# Altium footprint library SON-10.PcbLib: 1 footprints
Each footprint in its own frame and in the unit in brackets; x right, y up, seen from the top. Pads: shape width x height; smd on the part's side, far side on the other; paste and mask are expansions set on the pad; w line width, h text height; cw(c..) or ccw(c..) is an arc to the next point about the centre after c.
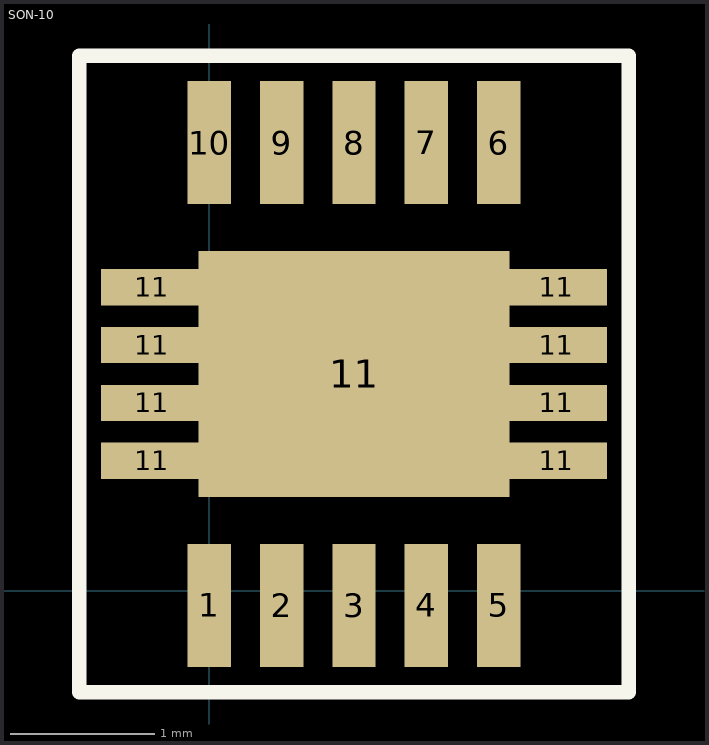
[diagram p0: the footprint, top view; thin cyan lines are the x and y axes]

## SON-10 [mm]
pads (19):
  rect 0.3x0.85 smd mask+0.05: 1(0,-0.1) 2(0.5,-0.1) 3(1,-0.1) 4(1.5,-0.1) 5(2,-0.1) 6(2,3.1) 7(1.5,3.1) 8(1,3.1) 9(0.5,3.1) 10(0,3.1)
  rect 0.7x0.25 smd mask+0.05: 11(-0.4,0.9) 11(-0.4,1.3) 11(-0.4,1.7) 11(-0.4,2.1) 11(2.4,0.9) 11(2.4,1.3) 11(2.4,1.7) 11(2.4,2.1)
  rect 2.15x1.7 smd mask+0.05: 11(1,1.5)
Top Overlay:
  lines w0.1: -0.9,-0.7 2.9,-0.7 2.9,3.7 -0.9,3.7 -0.9,-0.7
3D body: height 0.83, standoff -0.02, extent -0.3,0.15 2.3,2.85